# Altium schematic symbol library BQ27426.SchLib: 1 symbol
Pins are listed as number, name and electrical type; pins without a type are passive.

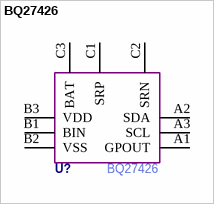
[diagram p0: symbol BQ27426]

## BQ27426
designator U?  Manufacturer Part Number: BQ27426  (hidden comment: *)
pins: A1 GPOUT, A2 SDA, A3 SCL, B1 BIN, B2 VSS, B3 VDD, C1 SRP, C2 SRN, C3 BAT